# EAGLE library part TPS61177ARGRR (library TexasInstruments)
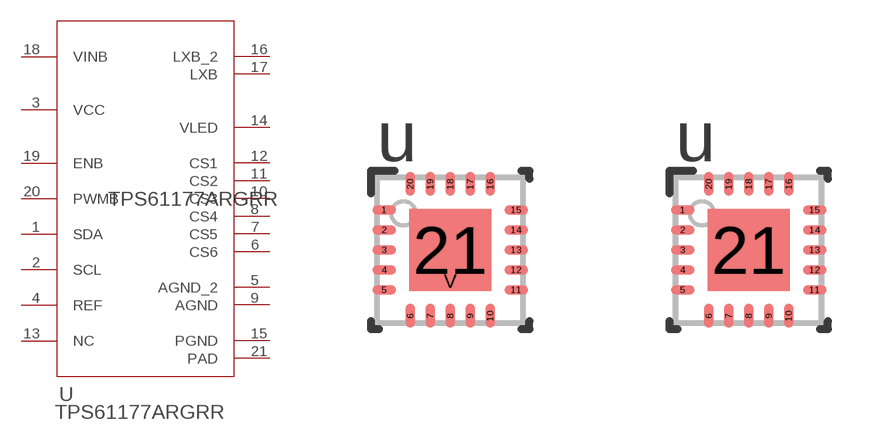
[diagram p8: symbol with the pads of RGR0020A; footprints RGR0020A, RGR0020A_NV]

Designator prefix U

## TPS61177ARGRR (COPYRIGHT: Copyright (C) 2022 Ultra Librarian. All rights reserved.; MANUFACTURER_PART_NUMBER: TPS61177ARGRR; MFR_NAME: Texas Instruments; REFDES: RefDes; TYPE: TYPE)  [RGR0020A]
1  SDA  in
2  SCL  in
3  VCC  pwr
4  REF  in
5  AGND_2  pwr
6  CS6  pwr
7  CS5  pwr
8  CS4  pwr
9  AGND  pwr
10  CS3  pwr
11  CS2  pwr
12  CS1  pwr
13  NC  pas
14  VLED  in
15  PGND  pwr
16  LXB_2  pwr
17  LXB  pwr
18  VINB  pwr
19  ENB  in
20  PWMB  in
21  PAD  pwr

## TPS61177ARGRRRGR0020A_NV (COPYRIGHT: Copyright (C) 2022 Ultra Librarian. All rights reserved.; MANUFACTURER_PART_NUMBER: TPS61177ARGRR; MFR_NAME: Texas Instruments; REFDES: RefDes; TYPE: TYPE)  [RGR0020A_NV]
Pads as for RGR0020A

## Footprint RGR0020A (pad centres in mm)
smd 0.6 x 0.24: 1 -1.65,1; 2 -1.65,0.5; 3 -1.65,0; 4 -1.65,-0.5; 5 -1.65,-1; 11 1.65,-1; 12 1.65,-0.5; 13 1.65,0; 14 1.65,0.5; 15 1.65,1
smd 0.24 x 0.6: 6 -1,-1.65; 7 -0.5,-1.65; 8 0,-1.65; 9 0.5,-1.65; 10 1,-1.65; 16 1,1.65; 17 0.5,1.65; 18 0,1.65; 19 -0.5,1.65; 20 -1,1.65
smd 2.05 x 2.05: 21 0,0
smd 0.5 x 0.5: V 0,-0.775

## Footprint RGR0020A_NV (pad centres in mm)
smd 0.6 x 0.24: 1 -1.65,1; 2 -1.65,0.5; 3 -1.65,0; 4 -1.65,-0.5; 5 -1.65,-1; 11 1.65,-1; 12 1.65,-0.5; 13 1.65,0; 14 1.65,0.5; 15 1.65,1
smd 0.24 x 0.6: 6 -1,-1.65; 7 -0.5,-1.65; 8 0,-1.65; 9 0.5,-1.65; 10 1,-1.65; 16 1,1.65; 17 0.5,1.65; 18 0,1.65; 19 -0.5,1.65; 20 -1,1.65
smd 2.05 x 2.05: 21 0,0